# Altium schematic symbol library Conn,BNC,50R,RA,Thru.SchLib: 1 symbol
Pins are listed as number, name and electrical type; pins without a type are passive.

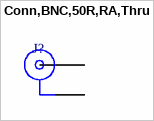
[diagram p0: symbol Conn,BNC,50R,RA,Thru]

## Conn,BNC,50R,RA,Thru
designator J?
pins: 1 (power), 2 (power)